# Altium footprint library HE721R0510.PcbLib: 1 footprints
Each footprint in its own frame and in the unit in brackets; x right, y up, seen from the top. Pads: shape width x height; smd on the part's side, far side on the other; paste and mask are expansions set on the pad; w line width, h text height; cw(c..) or ccw(c..) is an arc to the next point about the centre after c.
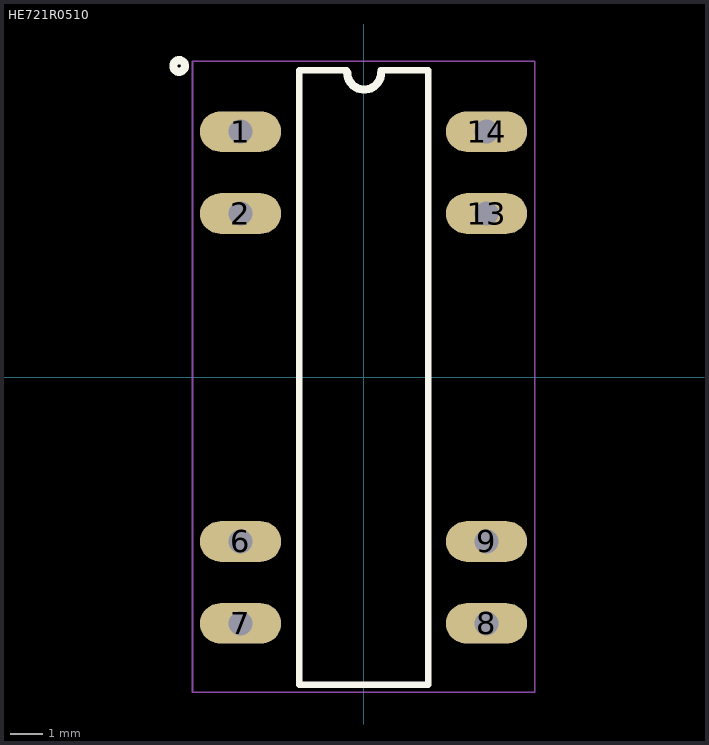
[diagram p0: the footprint, top view; thin cyan lines are the x and y axes]

## HE721R0510 [mm]
pads (8):
  oval 2.516x1.258 hole 0.75: 1(-3.81,7.62) 2(-3.81,5.08) 6(-3.81,-5.08) 7(-3.81,-7.62) 8(3.81,-7.62) 9(3.81,-5.08) 13(3.81,5.08) 14(3.81,7.62)
Top Overlay:
  circle w0.254: c-5.715,9.652 r0.18
  lines w0.2: -0.524,9.525 -2,9.525 -2,-9.525 2,-9.525 2,9.525 0.524,9.525
  lines w0.254: -0.505,9.443 ccw(c0.018,9.443) 0.542,9.443
Mechanical 15:
  lines w0.05: -5.3,-9.75 5.3,-9.75 5.3,9.8 -5.3,9.8 -5.3,-9.75
3D body "HE721R0510--3DModel-STEP-56544.STEP": height 5.5, standoff -3, extent -3.681,-9.652 4.189,9.398